# EAGLE library part DMMT5401 (library SteveMarple)
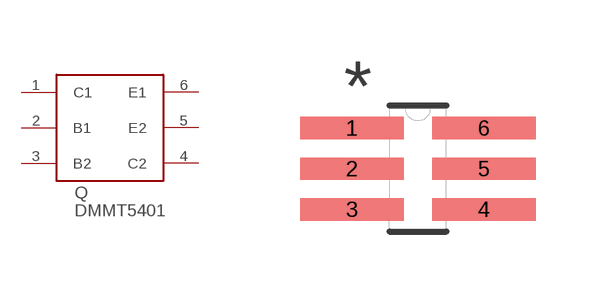
[diagram p39: symbol with the pads of SOT23-6-HAND; footprint SOT23-6-HAND]

Designator prefix Q

## DMMT5401  [SOT23-6-HAND]
1  C1
2  B1
3  B2
4  C2
5  E2
6  E1

## Footprint SOT23-6-HAND (pad centres in mm)
SOT23-6 HAND SOT23-6 package with footprint designed for easier soldering by hand.
smd 2.591 x 0.559: 1 -1.651,1.016; 2 -1.651,0; 3 -1.651,-1.016; 4 1.651,-1.016; 5 1.651,0; 6 1.651,1.016